# Altium footprint library SG_PCB_Fomin.PcbLib: 17 footprints (part 1 of 2)
Each footprint in its own frame and in the unit in brackets; x right, y up, seen from the top. Pads: shape width x height; smd on the part's side, far side on the other; paste and mask are expansions set on the pad; w line width, h text height; cw(c..) or ccw(c..) is an arc to the next point about the centre after c.
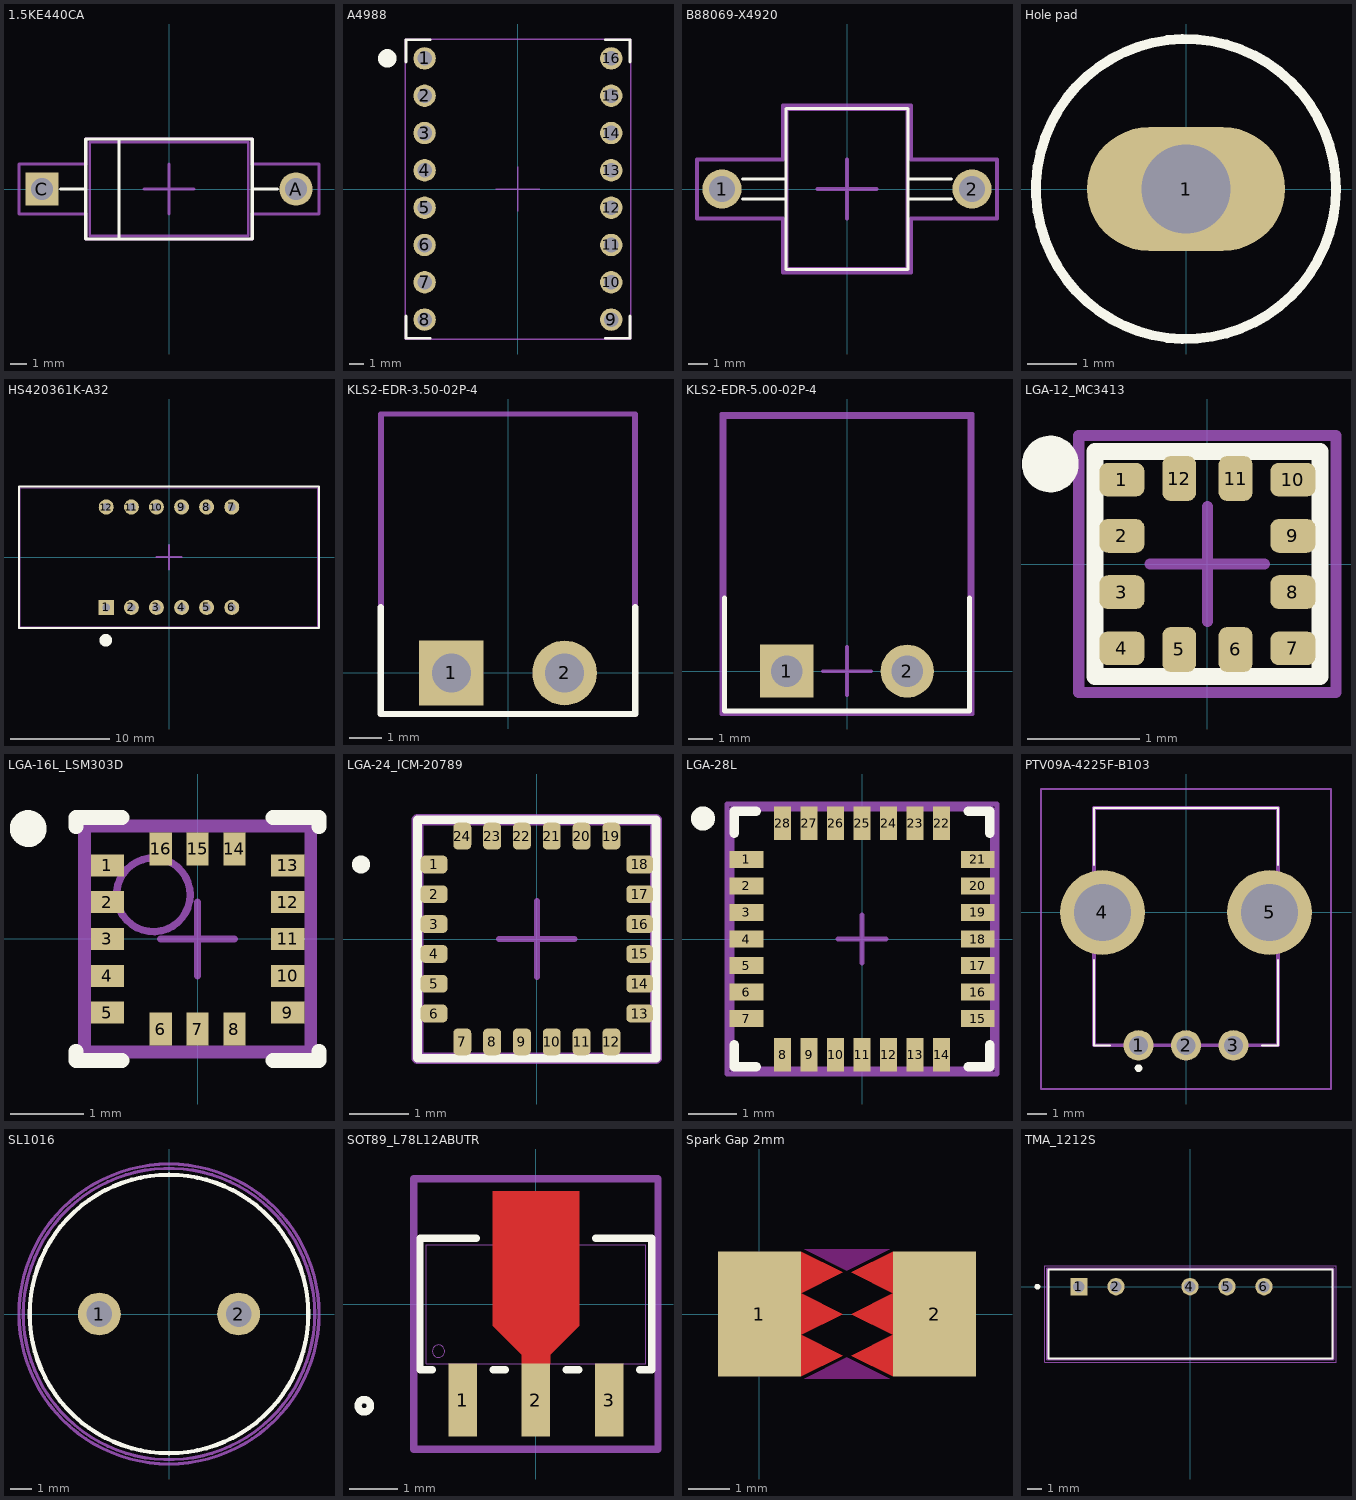
[diagram p0: the footprints below, top view; thin cyan lines are the x and y axes]

## 1.5KE440CA [mm] "TVS Diode 440V"
pads (2):
  round 2 hole 1.3: A(7.62,0)
  rect 2x2 hole 1.3: C(-7.62,0)
Top Overlay:
  lines w0.2: -6.5,0 -5,0 ; -3,-3 -3,3 ; 5,0 6.5,0 ; -5,-3 -5,3 5,3 5,-3 -5,-3
Top Assembly:
  lines w0.15: -4.75,-2.8 4.75,-2.8 4.75,2.8 -4.75,2.8 -4.75,-2.8
Top Courtyard:
  lines w0.2: -1.5,0 1.5,0 ; 0,-1.5 0,1.5 ; -9,-1.5 -5,-1.5 -5,-3 5,-3 5,-1.5 9,-1.5 9,1.5 5,1.5 5,3 -5,3 -5,1.5 -9,1.5 -9,-1.5
Top Designator:
  text ".Designator" at -7.746,-0.738 h1.52

## A4988 [mil] "STEPPER DRIVER"
pads (16):
  round 60 hole 39.37: 1(-250,350) 2(-250,250) 3(-250,150) 4(-250,50) 5(-250,-50) 6(-250,-150) 7(-250,-250) 8(-250,-350) 9(250,-350) 10(250,-250) 11(250,-150) 12(250,-50) 13(250,50) 14(250,150) 15(250,250) 16(250,350)
Top Overlay:
  circle w39.37: c-350,350 r5
  lines w7.87: -300,-340 -300,-400 -235,-400 ; -300,340 -300,400 -235,400 ; 235,-400 300,-400 300,-340 ; 235,400 300,400 300,340
Top Assembly:
  lines w3.94: -301.97,-401.97 301.97,-401.97 301.97,401.97 -301.97,401.97 -301.97,-401.97
Top Courtyard:
  lines w3.94: -59.06,0 59.06,0 ; 0,-59.06 0,59.06 ; -301.97,-401.97 301.97,-401.97 301.97,401.97 -301.97,401.97 -301.97,-401.97
Top Designator:
  text ".Designator" at -295.12,-19.22 h60
3D body "a4988-stepper-motor-driver-carrier.step": height 132.68, standoff 0, extent -300,-400 300,400

## B88069-X4920 [mm] "Spark gap"
pads (2):
  round 2 hole 1.3: 1(-6.35,0) 2(6.35,0)
Top Overlay:
  lines w0.15: -5.3,-0.5 -3.1,-0.5 ; -5.3,0.5 -3.1,0.5 ; 3.1,-0.5 5.3,-0.5 ; 3.1,0.5 5.3,0.5 ; -3.1,-4.1 -3.1,4.1 3.1,4.1 3.1,-4.1 -3.1,-4.1
Top Assembly:
  lines w0.15: -3.05,-4.05 3.05,-4.05 3.05,4.05 -3.05,4.05 -3.05,-4.05
Top Courtyard:
  lines w0.2: -1.5,0 1.5,0 ; 0,-1.5 0,1.5 ; -7.62,-1.5 -3.25,-1.5 -3.25,-4.25 3.25,-4.25 3.25,-1.5 7.62,-1.5 7.62,1.5 3.25,1.5 3.25,4.25 -3.25,4.25 -3.25,1.5 -7.62,1.5 -7.62,-1.5
Top Designator:
  text ".Designator" at -7.346,-0.438 h1.52

## Hole pad [mm]
pads (1):
  oval 4x2.5 hole 1.8: 1(0,0)
Top Overlay:
  circle w0.2: c0,0 r3.029

## HS420361K-A32 [mil] "7-segment 0.36 inch"
pads (12):
  rect 60x60 hole 31.5: 1(-250,-200)
  round 60 hole 31.5: 2(-150,-200.02) 3(-50,-200) 4(50,-200) 5(150,-200) 6(250,-200) 7(250,200) 8(150,200) 9(50,200) 10(-50,200) 11(-150,200) 12(-250,200)
Top Overlay:
  circle w39.37: c-251.97,-330.71 r5.57
  lines w7.87: -597.2,-282.24 597.2,-282.24 597.2,282.24 -597.2,282.24 -597.2,-282.24
Top Assembly:
  lines w3.94: -597.36,-282.4 597.36,-282.4 597.36,282.4 -597.36,282.4 -597.36,-282.4
Top Courtyard:
  lines w3.94: -591.46,-276.5 591.46,-276.5 591.46,276.5 -591.46,276.5 -591.46,-276.5
  lines w7.87: -49.21,0 49.21,0 ; 0,-49.21 0,49.21
Top Designator:
  text ".Designator" at -304.96,-9.38 h60
3D body "User Library-3641_Red_jam.SLDPRT": height 279.53, standoff -216.54, extent -590.54,-275.58 590.56,275.6

## KLS2-EDR-3.50-02P-4 [mm]
pads (2):
  rect 2x2 hole 1.2: 1(-1.75,0)
  round 2 hole 1.2: 2(1.75,0)
Top Overlay:
  lines w0.2: -3.937,2.032 -3.937,-1.27 3.937,-1.27 3.937,2.032
Top Assembly:
  lines w0.15: -3.937,-1.27 3.937,-1.27 3.937,8.001 -3.937,8.001 -3.937,-1.27
Top Courtyard:
  lines w0.15: -3.9,-1.27 -3.9,8 3.9,8 3.9,-1.27 -3.9,-1.27

## KLS2-EDR-5.00-02P-4 [mm]
pads (2):
  rect 2.2x2.2 hole 1.3: 1(-2.5,0)
  round 2.2 hole 1.3: 2(2.5,0)
Top Overlay:
  lines w0.2: -5.08,3.048 -5.08,-1.651 5.08,-1.651 5.08,3.048
Top Assembly:
  lines w0.15: -5.08,-1.651 5.08,-1.651 5.08,10.541 -5.08,10.541 -5.08,-1.651
Top Courtyard:
  lines w0.15: -1,0 1,0 ; 0,-1 0,1 ; -5.207,-1.778 5.207,-1.778 5.207,10.668 -5.207,10.668 -5.207,-1.778
Top Designator:
  text ".Designator" at -6.858,3.81 h1.52
3D body "KLS2-EDR-5.00-2P.STEP": height 8.2, standoff -4, extent -5.04,-1.6 5.04,10.5

## LGA-12_MC3413 [mm]
pads (12):
  rrect50% 0.4x0.3 smd mask+0: 1(-0.76,0.75) 2(-0.76,0.25) 3(-0.76,-0.25) 4(-0.76,-0.75) 7(0.76,-0.75) 8(0.76,-0.25) 9(0.76,0.25) 10(0.76,0.75)
  rrect50% 0.3x0.4 smd mask+0: 5(-0.25,-0.76) 6(0.25,-0.76) 11(0.25,0.76) 12(-0.25,0.76)
Top Overlay:
  circle w0.25: c-1.397,0.889 r0.127
  lines w0.15: -1,-1 1,-1 1,1 -1,1 -1,-1
Top Solder:
  region: 0.46,-1.02 0.04,-1.02 0.04,-0.5 0.46,-0.5
  region: -0.04,-1.02 -0.46,-1.02 -0.46,-0.5 -0.04,-0.5
  region: 0.46,0.501 0.04,0.501 0.04,1.02 0.46,1.02
  region: -0.04,0.5 -0.46,0.5 -0.46,1.02 -0.04,1.02
  region: 1.025,-0.96 0.505,-0.96 0.505,-0.54 1.025,-0.54
  region: 1.025,-0.461 0.506,-0.461 0.506,-0.04 1.025,-0.04
  region: 1.025,0.04 0.505,0.04 0.505,0.46 1.025,0.46
  region: 1.025,0.54 0.505,0.54 0.505,0.96 1.025,0.96
  region: -0.5,-0.961 -1.021,-0.961 -1.021,-0.54 -0.5,-0.54
  region: -0.5,-0.46 -1.02,-0.46 -1.02,-0.04 -0.5,-0.04
  region: -0.5,0.04 -1.021,0.04 -1.021,0.46 -0.5,0.46
  region: -0.5,0.54 -1.02,0.54 -1.02,0.96 -0.5,0.96
Top Assembly:
  lines w0.1: -1.016,-1.016 -1.016,1.016 1.016,1.016 1.016,-1.016 -1.016,-1.016
Top Courtyard:
  lines w0.1: -0.508,0 0.508,0 ; 0,-0.508 0,0.508 ; -1.143,-1.143 -1.143,1.143 1.143,1.143 1.143,-1.143 -1.143,-1.143
Top Designator:
  text ".Designator" at -0.799,-0.267 h0.5
3D body "LSM303CTR-LGA12.STEP": height 1, standoff 0, extent -1,-1 1,1

## LGA-16L_LSM303D [mm] "QFN, 16-Leads, Body 3,00x3,00mm, Pitch 0,50mm, Thermal Pad 1,25x2,25mm, IPC Medium Density"
height 1
pads (16):
  rect 0.45x0.3 smd: 1(-1.225,1) 2(-1.225,0.5) 3(-1.225,0) 4(-1.225,-0.5) 5(-1.225,-1) 9(1.225,-1) 10(1.225,-0.5) 11(1.225,0) 12(1.225,0.5) 13(1.225,1)
  rect 0.3x0.45 smd: 6(-0.5,-1.225) 7(0,-1.225) 8(0.5,-1.225) 14(0.5,1.225) 15(0,1.225) 16(-0.5,1.225)
Top Overlay:
  circle w0.25: c-2.3,1.5 r0.125
  lines w0.2: -1.65,-1.525 -1.65,-1.65 -1.025,-1.65 ; -1.65,1.525 -1.65,1.65 -1.025,1.65 ; 1.025,-1.65 1.65,-1.65 1.65,-1.525 ; 1.025,1.65 1.65,1.65 1.65,1.525
Top Assembly:
  circle w0.1: c-0.6,0.6 r0.5
  lines w0.1: -1.5,-1.5 1.5,-1.5 1.5,1.5 -1.5,1.5 -1.5,-1.5
Top Courtyard:
  lines w0.1: -0.5,0 0.5,0 ; 0,-0.5 0,0.5 ; -1.574,-1.574 1.574,-1.574 1.574,1.574 -1.574,1.574 -1.574,-1.574
Top Designator:
  text ".Designator" at -7.843,-0.508 h1.52
3D body "User Library-LIS331AL.step": height 1.01, standoff -0.01, extent -1.5,-1.5 1.5,1.5

## LGA-24_ICM-20789 [mm]
pads (24):
  rrect50% 0.45x0.3 smd: 1(-1.725,1.25) 2(-1.725,0.75) 3(-1.725,0.25) 4(-1.725,-0.25) 5(-1.725,-0.75) 6(-1.725,-1.25) 13(1.725,-1.25) 14(1.725,-0.75) 15(1.725,-0.25) 16(1.725,0.25) 17(1.725,0.75) 18(1.725,1.25)
  rrect50% 0.3x0.45 smd: 7(-1.25,-1.725) 8(-0.75,-1.725) 9(-0.25,-1.725) 10(0.25,-1.725) 11(0.75,-1.725) 12(1.25,-1.725) 19(1.25,1.725) 20(0.75,1.725) 21(0.25,1.725) 22(-0.25,1.725) 23(-0.75,1.725) 24(-1.25,1.725)
Top Overlay:
  lines w0.15: -2,-2 2,-2 2,2 -2,2 -2,-2
  lines w0.2: -3,1.25 ccw(c-2.95,1.25) -2.9,1.25 ; -3,1.25 cw(c-2.95,1.25) -2.9,1.25 ; -3,1.25 ccw(c-2.95,1.25) -2.9,1.25
Top Assembly:
  lines w0.2: -2,-2 -2,2 2,2 2,-2 -2,-2
Top Courtyard:
  lines w0.1: -0.635,0 0.635,0 ; 0,-0.635 0,0.635 ; -2.032,-2.032 2.032,-2.032 2.032,2.032 -2.032,2.032 -2.032,-2.032
Top Designator:
  text ".Designator" at -4.998,-0.317 h1
3D body "ICM-20789.stp": height 1.57, standoff 0, extent -2,-2 2,2

## LGA-28L [mm] "QFN, 28-Leads, Body 5,00x5,00mm, Pitch 0,55mm, Thermal Pad 3,60x3,60mm, IPC Medium Density"
height 1
pads (28):
  rect 0.7x0.35 smd: 1(-2.4,1.65) 2(-2.4,1.1) 3(-2.4,0.55) 4(-2.4,0) 5(-2.4,-0.55) 6(-2.4,-1.1) 7(-2.4,-1.65) 15(2.4,-1.65) 16(2.4,-1.1) 17(2.4,-0.55) 18(2.4,0) 19(2.4,0.55) 20(2.4,1.1) 21(2.4,1.65)
  rect 0.35x0.7 smd: 8(-1.65,-2.4) 9(-1.1,-2.4) 10(-0.55,-2.4) 11(0,-2.4) 12(0.55,-2.4) 13(1.1,-2.4) 14(1.65,-2.4) 22(1.65,2.4) 23(1.1,2.4) 24(0.55,2.4) 25(0,2.4) 26(-0.55,2.4) 27(-1.1,2.4) 28(-1.65,2.4)
Top Overlay:
  circle w0.25: c-3.3,2.5 r0.125
  lines w0.2: -2.65,-2.2 -2.65,-2.65 -2.2,-2.65 ; -2.65,2.2 -2.65,2.65 -2.2,2.65 ; 2.2,-2.65 2.65,-2.65 2.65,-2.2 ; 2.2,2.65 2.65,2.65 2.65,2.2
Top Assembly:
  lines w0.1: -2.7,-2.7 2.7,-2.7 2.7,2.7 -2.7,2.7 -2.7,-2.7
Top Courtyard:
  lines w0.1: -0.5,0 0.5,0 ; 0,-0.5 0,0.5 ; -2.8,-2.8 2.8,-2.8 2.8,2.8 -2.8,2.8 -2.8,-2.8
Top Designator:
  text ".Designator" at -7.843,-0.508 h1.52
3D body "QFN55P500X500X100_HS-29N.step": height 1, standoff 0, extent -2.7,-2.7 2.7,2.7

## PTV09A-4225F-B103 [mm] "Potentiometer"
pads (5):
  round 1.6 hole 1: 1(-2.5,-7) 2(0,-7) 3(2.5,-7)
  round 4.46 hole 3: 4(-4.4,0) 5(4.4,0)
Top Overlay:
  lines w0.1: -4.85,-2.5 -4.85,-7 -4,-7 ; -4.85,2.5 -4.85,5.5 4.85,5.5 4.85,2.5 ; 4,-7 4.85,-7 4.85,-2.5
  lines w0.2: -2.6,-8.2 cw(c-2.5,-8.2) -2.4,-8.2 cw(c-2.5,-8.2) -2.6,-8.2
Top Assembly:
  lines w0.2: -4.85,-7 4.85,-7 4.85,5.5 -4.85,5.5 -4.85,-7
Top Courtyard:
  lines w0.1: -7.63,-9.3 7.63,-9.3 7.63,6.5 -7.63,6.5 -7.63,-9.3
Top Designator:
  text ".Designator" at -6.946,-1.038 h1.52
3D body "PTV09A-4225F-B104.stp": height 25.35, standoff -3.39, extent -5.477,-7.627 5.477,4.825

## SL1016 [mm] "radial inductor"
pads (2):
  round 2 hole 1.2: 1(-3.25,0) 2(3.25,0)
Top Overlay:
  circle w0.2: c0,0 r6.5
Top Assembly:
  circle w0.15: c0,0 r6.8
Top Courtyard:
  circle w0.15: c0,0 r7
Top Designator:
  text ".Designator" at -7.246,-0.488 h1.52

## SOT89_L78L12ABUTR [mil]
pads (3):
  rect 23x59 smd paste+0 mask+0: 1(-59.06,-77.5) 2(0,-77.5) 3(59.06,-77.5)
Top Layer:
  region: 11.5,-48 -11.5,-48 -11.5,-41 -35,-17.5 -35,91 35,91 35,-17.5 11.5,-41
Top Overlay:
  circle w6: c-138.5,-82 r5
  lines w6: -83.66,-53 -93.5,-53 -93.5,53 -48.1,53 ; -34.46,-53 -24.6,-53 ; 24.6,-53 34.46,-53 ; 48.1,53 93.5,53 93.5,-53 83.66,-53
Top Paste:
  region: 11.5,-49 -11.5,-49 -11.5,-41 -35,-17.5 -35,81 35,81 35,-17.5 11.5,-41
Top Solder:
  region: 11.5,-49 -11.5,-49 -11.5,-41 -35,-17.5 -35,81 35,81 35,-17.5 11.5,-41
Top Assembly:
  circle w0: c-78.5,-38 r5
  lines w1: -88.5,-48 88.5,-48 88.5,48 -88.5,48 -88.5,-48 ; -69.56,-95 -48.56,-95 -48.56,-48 -69.56,-48 -69.56,-95 ; -10.5,-95 10.5,-95 10.5,-48 -10.5,-48 -10.5,-95 ; 48.56,-95 69.56,-95 69.56,-48 48.56,-48 48.56,-95
Top Courtyard:
  lines w3.94: -29.53,0 29.53,0 ; 0,-29.53 0,29.53
  lines w6: -98.43,-117 98.5,-117 98.5,-58 98.5,101 44,101 -44,101 -98.43,101 -98.43,-58 -98.43,-117
Top Designator:
  text ".Designator" at -322.4,-27.99 h60
3D body "SOT89_4P5X2P45_DIO.step": height 65.12, standoff 0, extent -88.5,-95 88.51,69.02

## Spark Gap 2mm [mm]
pads (2):
  rect 2x3 smd mask+0.102: 1(0,0) 2(4.2,0)
Top Layer:
  region: 1,1.5 2,1 1,0.5
  region: 1,0.5 1,-0.5 2,0
  region: 1,-1.5 2,-1 1,-0.5
  region: 3.2,1.5 2.2,1 3.2,0.5
  region: 3.2,0.5 3.2,-0.5 2.2,0
  region: 3.2,-1.5 2.2,-1 3.2,-0.5
Top Layer keep-out:
  region: 1.073,-1.55 2.1,-1.038 3.127,-1.55
  region: 1.073,1.55 2.1,1.038 3.127,1.55
Top Paste:
  region: 1,1.5 2,1 1,0.5
  region: 1,0.5 1,-0.5 2,0
  region: 1,-1.5 2,-1 1,-0.5
  region: 3.2,1.5 2.2,1 3.2,0.5
  region: 3.2,0.5 3.2,-0.5 2.2,0
  region: 3.2,-1.5 2.2,-1 3.2,-0.5
Top Solder:
  rectangle: 1,-1.6 3.2,1.6

## TMA_1212S [mm]
pads (5):
  rect 1.19x1.19 hole 0.79: 1(-7.65,0)
  round 1.19 hole 0.79: 2(-5.11,0) 4(-0.03,0) 5(2.51,0) 6(5.05,0)
Top Overlay:
  circle w0.2: c-10.5,0 r0.1
  lines w0.127: -9.75,-4.927 9.75,-4.927 9.75,1.173 -9.75,1.173 -9.75,-4.927
Top Assembly:
  lines w0.15: -9.825,-5 9.825,-5 9.825,1.25 -9.825,1.25 -9.825,-5
Top Courtyard:
  lines w0.05: -10,-5.177 10,-5.177 10,1.423 -10,1.423 -10,-5.177
Top Designator:
  text ".Designator" at -7.955,-2.385 h1.52
3D body "tma_1212s.stp": height 10.2, standoff -3.2, extent -9.75,-4.925 9.75,1.175